# Altium integrated library Microchip Interface.IntLib: 329 symbols (part 10 of 10)
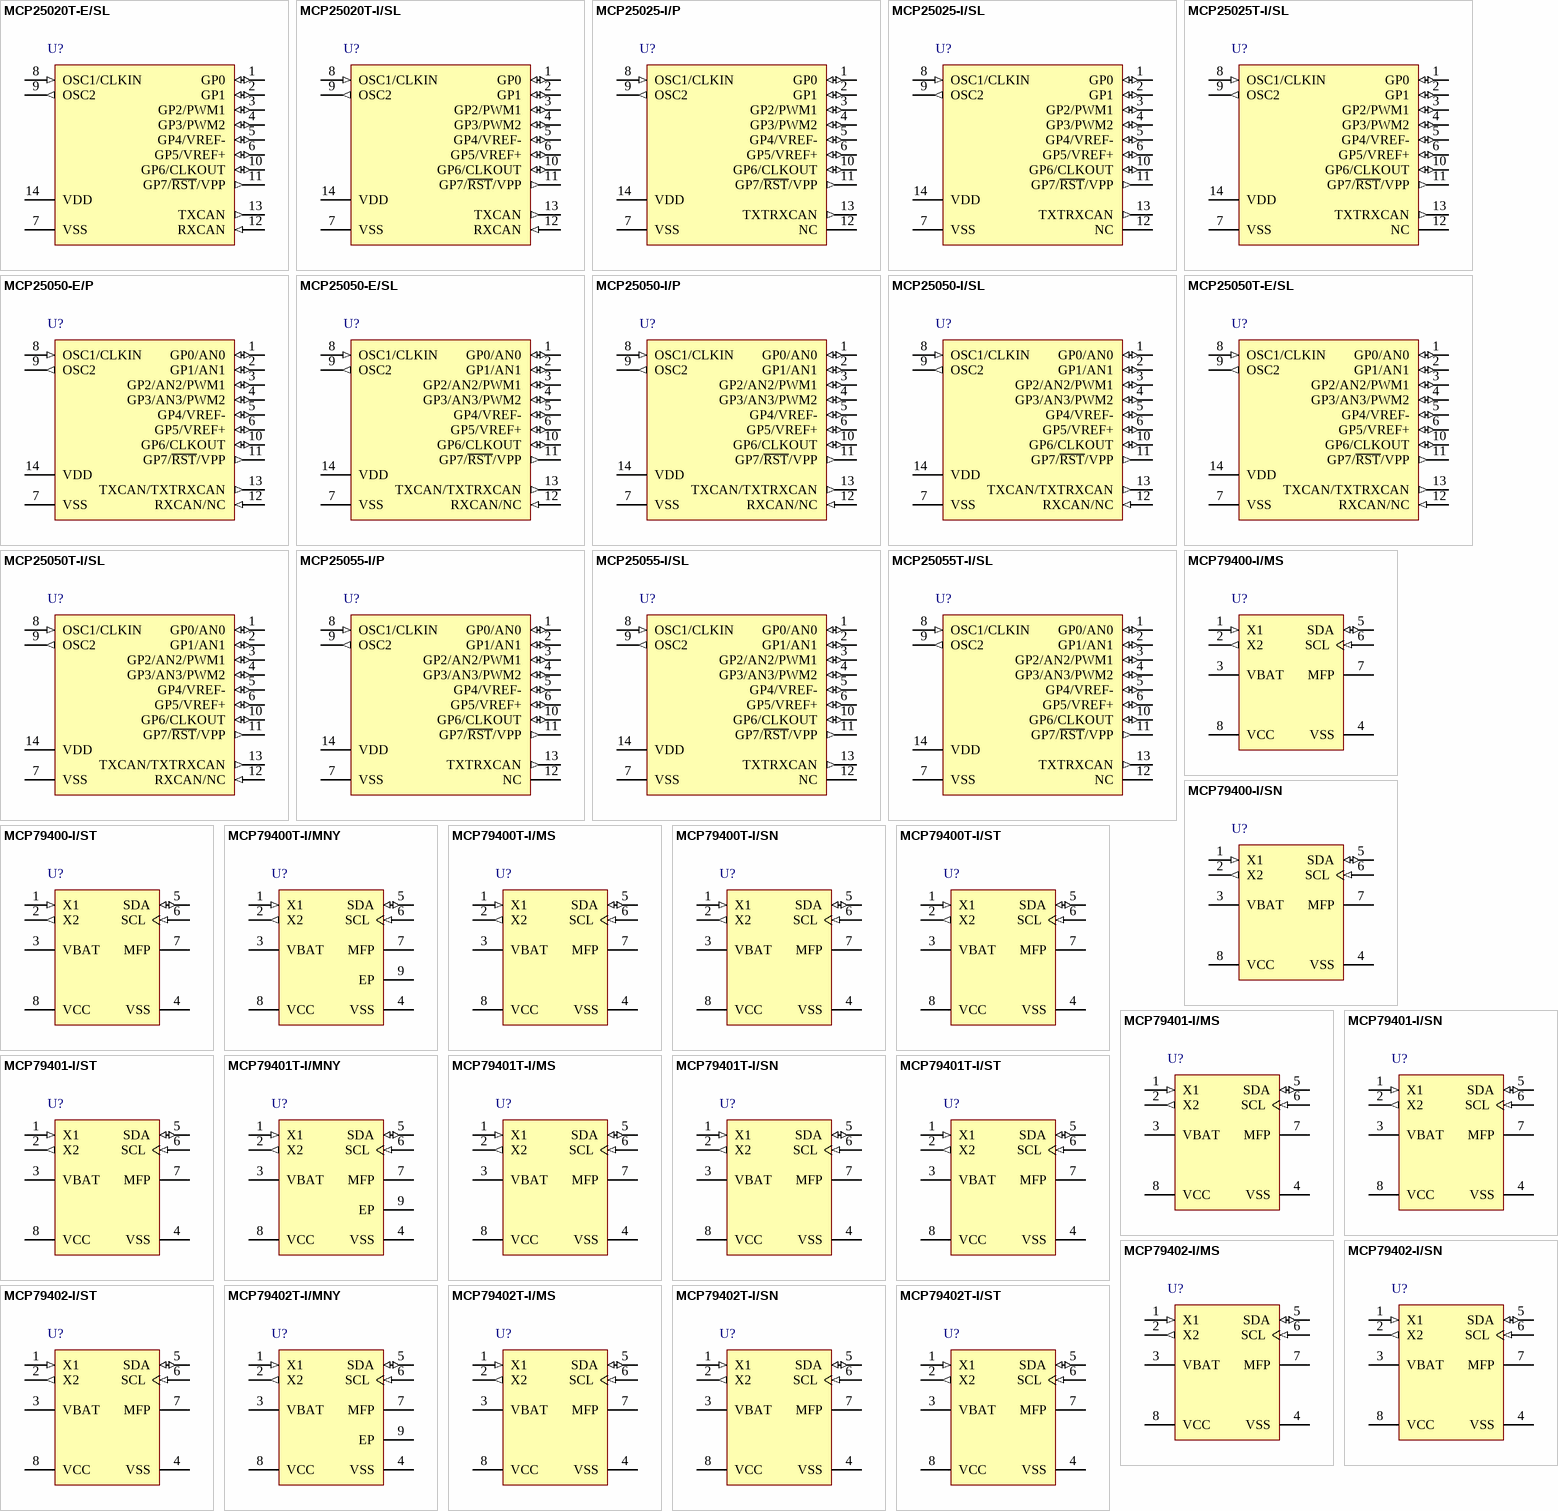
[diagram p22: symbols MCP25020T-E/SL to MCP79402T-I/ST]

## MCP79402T-I/SN
designator U?
I2C Real-Time Clock/Calendar with SRAM, Unique ID and Battery Switchover, 8-Pin SOIC, Industrial Temperature, Tape and Reel; Manufacturer: Microchip; PartNumber: MCP79402T-I/SN; DatasheetVersion: revC, Dec-2011; PackageVersion: revBB, Aug-2009; PackageReference: SOIC-SN8; PackageDescription: 8-Lead Plastic Small Outline (SN) - Narrow, 3.90mm Body [SOIC]; Supplier 1: Digi-Key; Supplier Part Number 1: MCP79402T-I/SN-ND; Supplier 2: Mouser; Supplier Part Number 2: 579-MCP79402TISN; Mounting Technology: Surface Mount; Code_JEDEC: MS-012; Code_IPC: SOIC127P600-8; ComponentLink1Description: Manufacturer URL; ComponentLink1URL: http://www.microchip.com/; ComponentLink2Description: Datasheet; ComponentLink2URL: http://ww1.microchip.com/downloads/en/DeviceDoc/25009C.pdf; ComponentLink3Description: Package Specification; ComponentLink3URL: http://www.microchip.com/stellent/groups/techpub_sg/documents/packagingspec/en012702.pdf
footprint SOIC-SN8_N (SOIC, 8-Leads, Body 4.9x3.8mm, Pitch 1.27mm, IPC Medium Density)
footprint SOIC-SN8_L (SOIC, 8-Leads, Body 4.9x3.8mm, Pitch 1.27mm, IPC High Density)
footprint SOIC-SN8_M (SOIC, 8-Leads, Body 4.9x3.8mm, Pitch 1.27mm, IPC Low Density)
pins: 1 X1 (in), 2 X2 (out), 3 VBAT (power), 4 VSS (power), 5 SDA (io), 6 SCL (in), 7 MFP (oc), 8 VCC (power)

## MCP79402T-I/ST
designator U?
I2C Real-Time Clock/Calendar with SRAM, Unique ID and Battery Switchover, 8-Pin TSSOP, Industrial Temperature, Tape and Reel; Manufacturer: Microchip; PartNumber: MCP79402T-I/ST; DatasheetVersion: revC, Dec-2011; PackageVersion: revBB, Aug-2009; PackageReference: TSSOP-ST8; PackageDescription: 8-Lead Plastic Thin Shrink Small Outline (ST) - 4.4mm Body [TSSOP]; Supplier 1: Digi-Key; Supplier Part Number 1: MCP79402T-I/ST-ND; Supplier 2: Newark; Supplier Part Number 2: 85R1772; Supplier 3: Mouser; Supplier Part Number 3: 579-MCP79402TIST; Mounting Technology: Surface Mount; Code_JEDEC: MO-153; ComponentLink1Description: Manufacturer URL; ComponentLink1URL: http://www.microchip.com/; ComponentLink2Description: Datasheet; ComponentLink2URL: http://ww1.microchip.com/downloads/en/DeviceDoc/25009C.pdf; ComponentLink3Description: Package Specification; ComponentLink3URL: http://www.microchip.com/stellent/groups/techpub_sg/documents/packagingspec/en012702.pdf
footprint TSSOP-ST8_N (TSOP, 8-Leads, Body 3x4.4mm, Pitch 0.65mm, IPC Medium Density)
footprint TSSOP-ST8_L (TSOP, 8-Leads, Body 3x4.4mm, Pitch 0.65mm, IPC High Density)
footprint TSSOP-ST8_M (TSOP, 8-Leads, Body 3x4.4mm, Pitch 0.65mm, IPC Low Density)
pins: 1 X1 (in), 2 X2 (out), 3 VBAT (power), 4 VSS (power), 5 SDA (io), 6 SCL (in), 7 MFP (oc), 8 VCC (power)

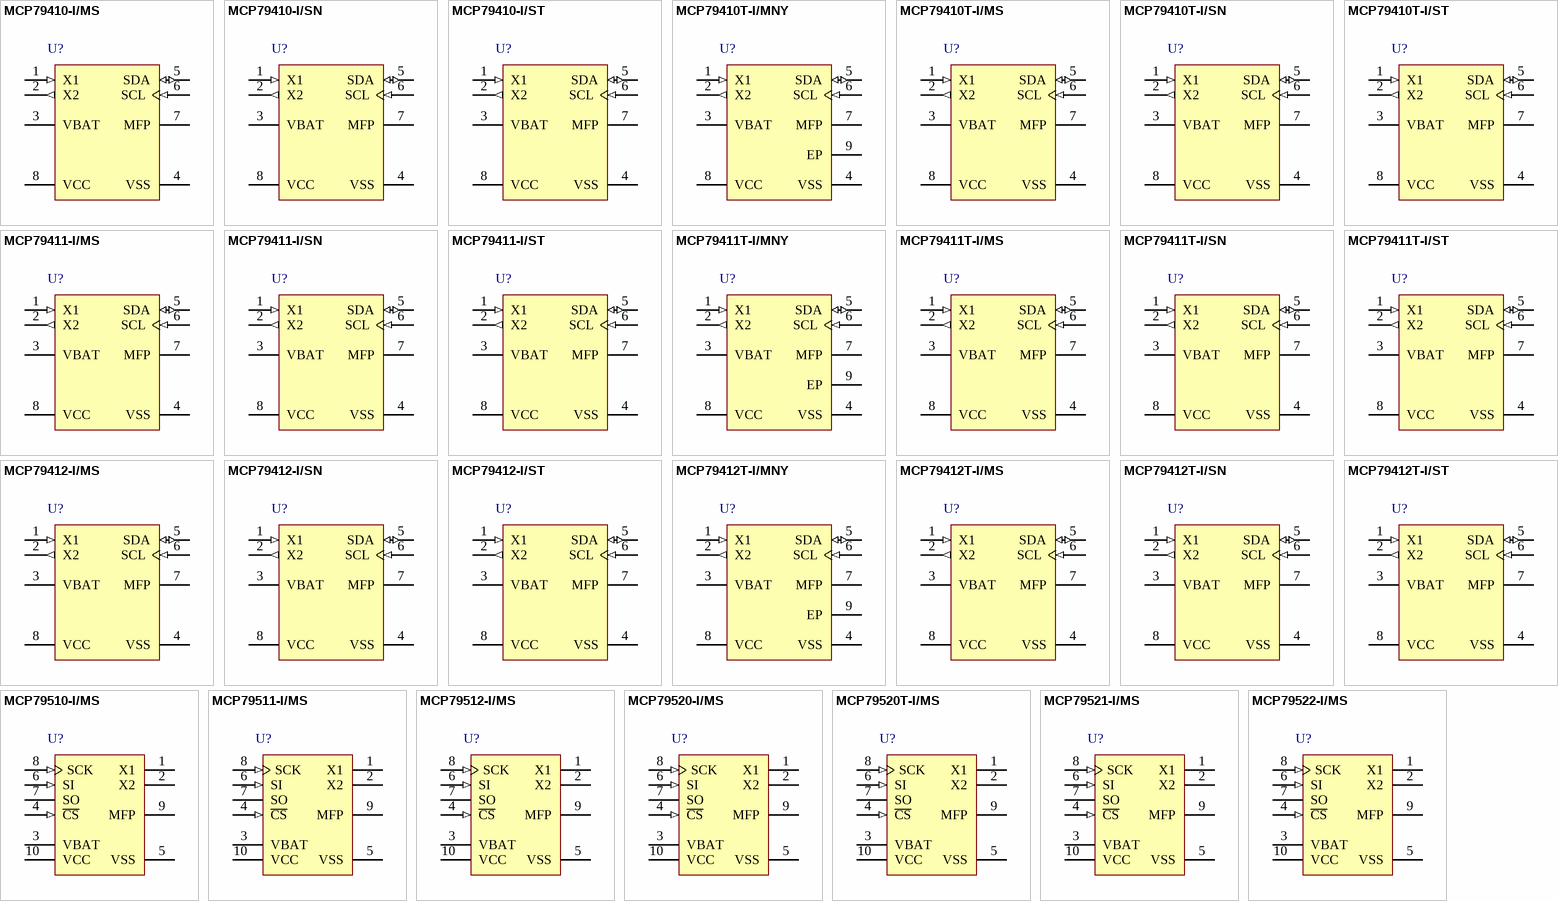
[diagram p13: symbols MCP79410-I/MS to MCP79522-I/MS]

## MCP79410-I/MS
designator U?
I2C Real-Time Clock/Calendar with EEPROM, SRAM, Unique ID and Battery Switchover, 8-Pin MSOP, Industrial Temperature; Manufacturer: Microchip; PartNumber: MCP79410-I/MS; DatasheetVersion: revD, Dec-2011; PackageVersion: revBB, Aug-2009; PackageReference: MSOP-MS8; PackageDescription: 8-Lead Plastic Micro Small Outline Package (MS) [MSOP]; Supplier 1: Digi-Key; Supplier Part Number 1: MCP79410-I/MS-ND; Supplier 2: Farnell; Supplier Part Number 2: 1823153; Supplier 3: Newark; Supplier Part Number 3: 76R6658; Supplier 4: Mouser; Supplier Part Number 4: 579-MCP79410-I/MS; Mounting Technology: Surface Mount; ComponentLink1Description: Manufacturer URL; ComponentLink1URL: http://www.microchip.com/; ComponentLink2Description: Datasheet; ComponentLink2URL: http://ww1.microchip.com/downloads/en/DeviceDoc/22266D.pdf; ComponentLink3Description: Package Specification; ComponentLink3URL: http://www.microchip.com/stellent/groups/techpub_sg/documents/packagingspec/en012702.pdf
footprint MSOP-MS8_N (TSOP, 8-Leads, Body 3x3mm, Pitch 0.65mm, IPC Medium Density)
footprint MSOP-MS8_L (TSOP, 8-Leads, Body 3x3mm, Pitch 0.65mm, IPC High Density)
footprint MSOP-MS8_M (TSOP, 8-Leads, Body 3x3mm, Pitch 0.65mm, IPC Low Density)
pins: 1 X1 (in), 2 X2 (out), 3 VBAT (power), 4 VSS (power), 5 SDA (io), 6 SCL (in), 7 MFP (oc), 8 VCC (power)

## MCP79410-I/SN
designator U?
I2C Real-Time Clock/Calendar with EEPROM, SRAM, Unique ID and Battery Switchover, 8-Pin SOIC, Industrial Temperature; Manufacturer: Microchip; PartNumber: MCP79410-I/SN; DatasheetVersion: revD, Dec-2011; PackageVersion: revBB, Aug-2009; PackageReference: SOIC-SN8; PackageDescription: 8-Lead Plastic Small Outline (SN) - Narrow, 3.90mm Body [SOIC]; Supplier 1: Digi-Key; Supplier Part Number 1: MCP79410-I/SN-ND; Supplier 2: Farnell; Supplier Part Number 2: 1823155; Supplier 3: Newark; Supplier Part Number 3: 76R6660; Supplier 4: Mouser; Supplier Part Number 4: 579-MCP79410-I/SN; Mounting Technology: Surface Mount; Code_JEDEC: MS-012; Code_IPC: SOIC127P600-8; ComponentLink1Description: Manufacturer URL; ComponentLink1URL: http://www.microchip.com/; ComponentLink2Description: Datasheet; ComponentLink2URL: http://ww1.microchip.com/downloads/en/DeviceDoc/22266D.pdf; ComponentLink3Description: Package Specification; ComponentLink3URL: http://www.microchip.com/stellent/groups/techpub_sg/documents/packagingspec/en012702.pdf
footprint SOIC-SN8_N (SOIC, 8-Leads, Body 4.9x3.8mm, Pitch 1.27mm, IPC Medium Density)
footprint SOIC-SN8_L (SOIC, 8-Leads, Body 4.9x3.8mm, Pitch 1.27mm, IPC High Density)
footprint SOIC-SN8_M (SOIC, 8-Leads, Body 4.9x3.8mm, Pitch 1.27mm, IPC Low Density)
pins: 1 X1 (in), 2 X2 (out), 3 VBAT (power), 4 VSS (power), 5 SDA (io), 6 SCL (in), 7 MFP (oc), 8 VCC (power)

## MCP79410-I/ST
designator U?
I2C Real-Time Clock/Calendar with EEPROM, SRAM, Unique ID and Battery Switchover, 8-Pin TSSOP, Industrial Temperature; Manufacturer: Microchip; PartNumber: MCP79410-I/ST; DatasheetVersion: revD, Dec-2011; PackageVersion: revBB, Aug-2009; PackageReference: TSSOP-ST8; PackageDescription: 8-Lead Plastic Thin Shrink Small Outline (ST) - 4.4mm Body [TSSOP]; Supplier 1: Digi-Key; Supplier Part Number 1: MCP79410-I/ST-ND; Supplier 2: Farnell; Supplier Part Number 2: 1823156; Supplier 3: Newark; Supplier Part Number 3: 76R6661; Supplier 4: Mouser; Supplier Part Number 4: 579-MCP79410-I/ST; Mounting Technology: Surface Mount; Code_JEDEC: MO-153; ComponentLink1Description: Manufacturer URL; ComponentLink1URL: http://www.microchip.com/; ComponentLink2Description: Datasheet; ComponentLink2URL: http://ww1.microchip.com/downloads/en/DeviceDoc/22266D.pdf; ComponentLink3Description: Package Specification; ComponentLink3URL: http://www.microchip.com/stellent/groups/techpub_sg/documents/packagingspec/en012702.pdf
footprint TSSOP-ST8_N (TSOP, 8-Leads, Body 3x4.4mm, Pitch 0.65mm, IPC Medium Density)
footprint TSSOP-ST8_L (TSOP, 8-Leads, Body 3x4.4mm, Pitch 0.65mm, IPC High Density)
footprint TSSOP-ST8_M (TSOP, 8-Leads, Body 3x4.4mm, Pitch 0.65mm, IPC Low Density)
pins: 1 X1 (in), 2 X2 (out), 3 VBAT (power), 4 VSS (power), 5 SDA (io), 6 SCL (in), 7 MFP (oc), 8 VCC (power)

## MCP79410T-I/MNY
designator U?
I2C Real-Time Clock/Calendar with EEPROM, SRAM, Unique ID and Battery Switchover, 8-Pin TDFN, Industrial Temperature, Tape and Reel; Manufacturer: Microchip; PartNumber: MCP79410T-I/MNY; DatasheetVersion: revD, Dec-2011; PackageVersion: revBB, Aug-2009; PackageReference: TDFN-MN8; PackageDescription: 8-Lead Plastic Dual Flat, No Lead Package (MN) - 2x3x0.75mm Body [TDFN]; Supplier 1: Digi-Key; Supplier Part Number 1: MCP79410T-I/MNYTR-ND; Supplier 2: Digi-Key; Supplier Part Number 2: MCP79410T-I/MNYCT-ND; Supplier 3: Digi-Key; Supplier Part Number 3: MCP79410T-I/MNYDKR-ND; Supplier 4: Newark; Supplier Part Number 4: 76R6662; Supplier 5: Mouser; Supplier Part Number 5: 579-MCP79410T-I/MNY; Mounting Technology: Surface Mount; ComponentLink1Description: Manufacturer URL; ComponentLink1URL: http://www.microchip.com/; ComponentLink2Description: Datasheet; ComponentLink2URL: http://ww1.microchip.com/downloads/en/DeviceDoc/22266D.pdf; ComponentLink3Description: Package Specification; ComponentLink3URL: http://www.microchip.com/stellent/groups/techpub_sg/documents/packagingspec/en012702.pdf
footprint TDFN-MN8 (SON, 8-Leads, Body 2x3mm, Pitch 0.5mm, Microchip Recommended)
pins: 1 X1 (in), 2 X2 (out), 3 VBAT (power), 4 VSS (power), 5 SDA (io), 6 SCL (in), 7 MFP (oc), 8 VCC (power), 9 EP

## MCP79410T-I/MS
designator U?
I2C Real-Time Clock/Calendar with EEPROM, SRAM, Unique ID and Battery Switchover, 8-Pin MSOP, Industrial Temperature, Tape and Reel; Manufacturer: Microchip; PartNumber: MCP79410T-I/MS; DatasheetVersion: revD, Dec-2011; PackageVersion: revBB, Aug-2009; PackageReference: MSOP-MS8; PackageDescription: 8-Lead Plastic Micro Small Outline Package (MS) [MSOP]; Supplier 1: Digi-Key; Supplier Part Number 1: MCP79410T-I/MS-ND; Supplier 2: Newark; Supplier Part Number 2: 76R6663; Supplier 3: Mouser; Supplier Part Number 3: 579-MCP79410T-I/MS; Mounting Technology: Surface Mount; ComponentLink1Description: Manufacturer URL; ComponentLink1URL: http://www.microchip.com/; ComponentLink2Description: Datasheet; ComponentLink2URL: http://ww1.microchip.com/downloads/en/DeviceDoc/22266D.pdf; ComponentLink3Description: Package Specification; ComponentLink3URL: http://www.microchip.com/stellent/groups/techpub_sg/documents/packagingspec/en012702.pdf
footprint MSOP-MS8_N (TSOP, 8-Leads, Body 3x3mm, Pitch 0.65mm, IPC Medium Density)
footprint MSOP-MS8_L (TSOP, 8-Leads, Body 3x3mm, Pitch 0.65mm, IPC High Density)
footprint MSOP-MS8_M (TSOP, 8-Leads, Body 3x3mm, Pitch 0.65mm, IPC Low Density)
pins: 1 X1 (in), 2 X2 (out), 3 VBAT (power), 4 VSS (power), 5 SDA (io), 6 SCL (in), 7 MFP (oc), 8 VCC (power)

## MCP79410T-I/SN
designator U?
I2C Real-Time Clock/Calendar with EEPROM, SRAM, Unique ID and Battery Switchover, 8-Pin SOIC, Industrial Temperature, Tape and Reel; Manufacturer: Microchip; PartNumber: MCP79410T-I/SN; DatasheetVersion: revD, Dec-2011; PackageVersion: revBB, Aug-2009; PackageReference: SOIC-SN8; PackageDescription: 8-Lead Plastic Small Outline (SN) - Narrow, 3.90mm Body [SOIC]; Supplier 1: Digi-Key; Supplier Part Number 1: MCP79410T-I/SN-ND; Supplier 2: Newark; Supplier Part Number 2: 76R6664; Supplier 3: Mouser; Supplier Part Number 3: 579-MCP79410T-I/SN; Mounting Technology: Surface Mount; Code_JEDEC: MS-012; Code_IPC: SOIC127P600-8; ComponentLink1Description: Manufacturer URL; ComponentLink1URL: http://www.microchip.com/; ComponentLink2Description: Datasheet; ComponentLink2URL: http://ww1.microchip.com/downloads/en/DeviceDoc/22266D.pdf; ComponentLink3Description: Package Specification; ComponentLink3URL: http://www.microchip.com/stellent/groups/techpub_sg/documents/packagingspec/en012702.pdf
footprint SOIC-SN8_N (SOIC, 8-Leads, Body 4.9x3.8mm, Pitch 1.27mm, IPC Medium Density)
footprint SOIC-SN8_L (SOIC, 8-Leads, Body 4.9x3.8mm, Pitch 1.27mm, IPC High Density)
footprint SOIC-SN8_M (SOIC, 8-Leads, Body 4.9x3.8mm, Pitch 1.27mm, IPC Low Density)
pins: 1 X1 (in), 2 X2 (out), 3 VBAT (power), 4 VSS (power), 5 SDA (io), 6 SCL (in), 7 MFP (oc), 8 VCC (power)

## MCP79410T-I/ST
designator U?
I2C Real-Time Clock/Calendar with EEPROM, SRAM, Unique ID and Battery Switchover, 8-Pin TSSOP, Industrial Temperature, Tape and Reel; Manufacturer: Microchip; PartNumber: MCP79410T-I/ST; DatasheetVersion: revD, Dec-2011; PackageVersion: revBB, Aug-2009; PackageReference: TSSOP-ST8; PackageDescription: 8-Lead Plastic Thin Shrink Small Outline (ST) - 4.4mm Body [TSSOP]; Supplier 1: Digi-Key; Supplier Part Number 1: MCP79410T-I/ST-ND; Supplier 2: Newark; Supplier Part Number 2: 76R6665; Supplier 3: Mouser; Supplier Part Number 3: 579-MCP79410T-I/ST; Mounting Technology: Surface Mount; Code_JEDEC: MO-153; ComponentLink1Description: Manufacturer URL; ComponentLink1URL: http://www.microchip.com/; ComponentLink2Description: Datasheet; ComponentLink2URL: http://ww1.microchip.com/downloads/en/DeviceDoc/22266D.pdf; ComponentLink3Description: Package Specification; ComponentLink3URL: http://www.microchip.com/stellent/groups/techpub_sg/documents/packagingspec/en012702.pdf
footprint TSSOP-ST8_N (TSOP, 8-Leads, Body 3x4.4mm, Pitch 0.65mm, IPC Medium Density)
footprint TSSOP-ST8_L (TSOP, 8-Leads, Body 3x4.4mm, Pitch 0.65mm, IPC High Density)
footprint TSSOP-ST8_M (TSOP, 8-Leads, Body 3x4.4mm, Pitch 0.65mm, IPC Low Density)
pins: 1 X1 (in), 2 X2 (out), 3 VBAT (power), 4 VSS (power), 5 SDA (io), 6 SCL (in), 7 MFP (oc), 8 VCC (power)

## MCP79411-I/MS
designator U?
I2C Real-Time Clock/Calendar with EEPROM, SRAM, Unique ID and Battery Switchover, 8-Pin MSOP, Industrial Temperature; Manufacturer: Microchip; PartNumber: MCP79411-I/MS; DatasheetVersion: revD, Dec-2011; PackageVersion: revBB, Aug-2009; PackageReference: MSOP-MS8; PackageDescription: 8-Lead Plastic Micro Small Outline Package (MS) [MSOP]; Supplier 1: Digi-Key; Supplier Part Number 1: MCP79411-I/MS-ND; Supplier 2: Newark; Supplier Part Number 2: 85R1773; Supplier 3: Mouser; Supplier Part Number 3: 579-MCP79411IMS; Mounting Technology: Surface Mount; ComponentLink1Description: Manufacturer URL; ComponentLink1URL: http://www.microchip.com/; ComponentLink2Description: Datasheet; ComponentLink2URL: http://ww1.microchip.com/downloads/en/DeviceDoc/22266D.pdf; ComponentLink3Description: Package Specification; ComponentLink3URL: http://www.microchip.com/stellent/groups/techpub_sg/documents/packagingspec/en012702.pdf
footprint MSOP-MS8_N (TSOP, 8-Leads, Body 3x3mm, Pitch 0.65mm, IPC Medium Density)
footprint MSOP-MS8_L (TSOP, 8-Leads, Body 3x3mm, Pitch 0.65mm, IPC High Density)
footprint MSOP-MS8_M (TSOP, 8-Leads, Body 3x3mm, Pitch 0.65mm, IPC Low Density)
pins: 1 X1 (in), 2 X2 (out), 3 VBAT (power), 4 VSS (power), 5 SDA (io), 6 SCL (in), 7 MFP (oc), 8 VCC (power)

## MCP79411-I/SN
designator U?
I2C Real-Time Clock/Calendar with EEPROM, SRAM, Unique ID and Battery Switchover, 8-Pin SOIC, Industrial Temperature; Manufacturer: Microchip; PartNumber: MCP79411-I/SN; DatasheetVersion: revD, Dec-2011; PackageVersion: revBB, Aug-2009; PackageReference: SOIC-SN8; PackageDescription: 8-Lead Plastic Small Outline (SN) - Narrow, 3.90mm Body [SOIC]; Supplier 1: Digi-Key; Supplier Part Number 1: MCP79411-I/SN-ND; Supplier 2: Newark; Supplier Part Number 2: 85R1774; Supplier 3: Mouser; Supplier Part Number 3: 579-MCP79411ISN; Mounting Technology: Surface Mount; Code_JEDEC: MS-012; Code_IPC: SOIC127P600-8; ComponentLink1Description: Manufacturer URL; ComponentLink1URL: http://www.microchip.com/; ComponentLink2Description: Datasheet; ComponentLink2URL: http://ww1.microchip.com/downloads/en/DeviceDoc/22266D.pdf; ComponentLink3Description: Package Specification; ComponentLink3URL: http://www.microchip.com/stellent/groups/techpub_sg/documents/packagingspec/en012702.pdf
footprint SOIC-SN8_N (SOIC, 8-Leads, Body 4.9x3.8mm, Pitch 1.27mm, IPC Medium Density)
footprint SOIC-SN8_L (SOIC, 8-Leads, Body 4.9x3.8mm, Pitch 1.27mm, IPC High Density)
footprint SOIC-SN8_M (SOIC, 8-Leads, Body 4.9x3.8mm, Pitch 1.27mm, IPC Low Density)
pins: 1 X1 (in), 2 X2 (out), 3 VBAT (power), 4 VSS (power), 5 SDA (io), 6 SCL (in), 7 MFP (oc), 8 VCC (power)

## MCP79411-I/ST
designator U?
I2C Real-Time Clock/Calendar with EEPROM, SRAM, Unique ID and Battery Switchover, 8-Pin TSSOP, Industrial Temperature; Manufacturer: Microchip; PartNumber: MCP79411-I/ST; DatasheetVersion: revD, Dec-2011; PackageVersion: revBB, Aug-2009; PackageReference: TSSOP-ST8; PackageDescription: 8-Lead Plastic Thin Shrink Small Outline (ST) - 4.4mm Body [TSSOP]; Supplier 1: Digi-Key; Supplier Part Number 1: MCP79411-I/ST-ND; Supplier 2: Mouser; Supplier Part Number 2: 579-MCP79411IST; Mounting Technology: Surface Mount; Code_JEDEC: MO-153; ComponentLink1Description: Manufacturer URL; ComponentLink1URL: http://www.microchip.com/; ComponentLink2Description: Datasheet; ComponentLink2URL: http://ww1.microchip.com/downloads/en/DeviceDoc/22266D.pdf; ComponentLink3Description: Package Specification; ComponentLink3URL: http://www.microchip.com/stellent/groups/techpub_sg/documents/packagingspec/en012702.pdf
footprint TSSOP-ST8_N (TSOP, 8-Leads, Body 3x4.4mm, Pitch 0.65mm, IPC Medium Density)
footprint TSSOP-ST8_L (TSOP, 8-Leads, Body 3x4.4mm, Pitch 0.65mm, IPC High Density)
footprint TSSOP-ST8_M (TSOP, 8-Leads, Body 3x4.4mm, Pitch 0.65mm, IPC Low Density)
pins: 1 X1 (in), 2 X2 (out), 3 VBAT (power), 4 VSS (power), 5 SDA (io), 6 SCL (in), 7 MFP (oc), 8 VCC (power)

## MCP79411T-I/MNY
designator U?
I2C Real-Time Clock/Calendar with EEPROM, SRAM, Unique ID and Battery Switchover, 8-Pin TDFN, Industrial Temperature, Tape and Reel; Manufacturer: Microchip; PartNumber: MCP79411T-I/MNY; DatasheetVersion: revD, Dec-2011; PackageVersion: revBB, Aug-2009; PackageReference: TDFN-MN8; PackageDescription: 8-Lead Plastic Dual Flat, No Lead Package (MN) - 2x3x0.75mm Body [TDFN]; Supplier 1: Digi-Key; Supplier Part Number 1: MCP79411T-I/MNY-ND; Supplier 2: Mouser; Supplier Part Number 2: 579-MCP79411TIMNY; Mounting Technology: Surface Mount; ComponentLink1Description: Manufacturer URL; ComponentLink1URL: http://www.microchip.com/; ComponentLink2Description: Datasheet; ComponentLink2URL: http://ww1.microchip.com/downloads/en/DeviceDoc/22266D.pdf; ComponentLink3Description: Package Specification; ComponentLink3URL: http://www.microchip.com/stellent/groups/techpub_sg/documents/packagingspec/en012702.pdf
footprint TDFN-MN8 (SON, 8-Leads, Body 2x3mm, Pitch 0.5mm, Microchip Recommended)
pins: 1 X1 (in), 2 X2 (out), 3 VBAT (power), 4 VSS (power), 5 SDA (io), 6 SCL (in), 7 MFP (oc), 8 VCC (power), 9 EP

## MCP79411T-I/MS
designator U?
I2C Real-Time Clock/Calendar with EEPROM, SRAM, Unique ID and Battery Switchover, 8-Pin MSOP, Industrial Temperature, Tape and Reel; Manufacturer: Microchip; PartNumber: MCP79411T-I/MS; DatasheetVersion: revD, Dec-2011; PackageVersion: revBB, Aug-2009; PackageReference: MSOP-MS8; PackageDescription: 8-Lead Plastic Micro Small Outline Package (MS) [MSOP]; Supplier 1: Digi-Key; Supplier Part Number 1: MCP79411T-I/MS-ND; Supplier 2: Newark; Supplier Part Number 2: 85R1777; Supplier 3: Mouser; Supplier Part Number 3: 579-MCP79411TIMS; Mounting Technology: Surface Mount; ComponentLink1Description: Manufacturer URL; ComponentLink1URL: http://www.microchip.com/; ComponentLink2Description: Datasheet; ComponentLink2URL: http://ww1.microchip.com/downloads/en/DeviceDoc/22266D.pdf; ComponentLink3Description: Package Specification; ComponentLink3URL: http://www.microchip.com/stellent/groups/techpub_sg/documents/packagingspec/en012702.pdf
footprint MSOP-MS8_N (TSOP, 8-Leads, Body 3x3mm, Pitch 0.65mm, IPC Medium Density)
footprint MSOP-MS8_L (TSOP, 8-Leads, Body 3x3mm, Pitch 0.65mm, IPC High Density)
footprint MSOP-MS8_M (TSOP, 8-Leads, Body 3x3mm, Pitch 0.65mm, IPC Low Density)
pins: 1 X1 (in), 2 X2 (out), 3 VBAT (power), 4 VSS (power), 5 SDA (io), 6 SCL (in), 7 MFP (oc), 8 VCC (power)

## MCP79411T-I/SN
designator U?
I2C Real-Time Clock/Calendar with EEPROM, SRAM, Unique ID and Battery Switchover, 8-Pin SOIC, Industrial Temperature, Tape and Reel; Manufacturer: Microchip; PartNumber: MCP79411T-I/SN; DatasheetVersion: revD, Dec-2011; PackageVersion: revBB, Aug-2009; PackageReference: SOIC-SN8; PackageDescription: 8-Lead Plastic Small Outline (SN) - Narrow, 3.90mm Body [SOIC]; Supplier 1: Digi-Key; Supplier Part Number 1: MCP79411T-I/SN-ND; Supplier 2: Mouser; Supplier Part Number 2: 579-MCP79411TISN; Mounting Technology: Surface Mount; Code_JEDEC: MS-012; Code_IPC: SOIC127P600-8; ComponentLink1Description: Manufacturer URL; ComponentLink1URL: http://www.microchip.com/; ComponentLink2Description: Datasheet; ComponentLink2URL: http://ww1.microchip.com/downloads/en/DeviceDoc/22266D.pdf; ComponentLink3Description: Package Specification; ComponentLink3URL: http://www.microchip.com/stellent/groups/techpub_sg/documents/packagingspec/en012702.pdf
footprint SOIC-SN8_N (SOIC, 8-Leads, Body 4.9x3.8mm, Pitch 1.27mm, IPC Medium Density)
footprint SOIC-SN8_L (SOIC, 8-Leads, Body 4.9x3.8mm, Pitch 1.27mm, IPC High Density)
footprint SOIC-SN8_M (SOIC, 8-Leads, Body 4.9x3.8mm, Pitch 1.27mm, IPC Low Density)
pins: 1 X1 (in), 2 X2 (out), 3 VBAT (power), 4 VSS (power), 5 SDA (io), 6 SCL (in), 7 MFP (oc), 8 VCC (power)

## MCP79411T-I/ST
designator U?
I2C Real-Time Clock/Calendar with EEPROM, SRAM, Unique ID and Battery Switchover, 8-Pin TSSOP, Industrial Temperature, Tape and Reel; Manufacturer: Microchip; PartNumber: MCP79411T-I/ST; DatasheetVersion: revD, Dec-2011; PackageVersion: revBB, Aug-2009; PackageReference: TSSOP-ST8; PackageDescription: 8-Lead Plastic Thin Shrink Small Outline (ST) - 4.4mm Body [TSSOP]; Supplier 1: Digi-Key; Supplier Part Number 1: MCP79411T-I/ST-ND; Supplier 2: Mouser; Supplier Part Number 2: 579-MCP79411TIST; Mounting Technology: Surface Mount; Code_JEDEC: MO-153; ComponentLink1Description: Manufacturer URL; ComponentLink1URL: http://www.microchip.com/; ComponentLink2Description: Datasheet; ComponentLink2URL: http://ww1.microchip.com/downloads/en/DeviceDoc/22266D.pdf; ComponentLink3Description: Package Specification; ComponentLink3URL: http://www.microchip.com/stellent/groups/techpub_sg/documents/packagingspec/en012702.pdf
footprint TSSOP-ST8_N (TSOP, 8-Leads, Body 3x4.4mm, Pitch 0.65mm, IPC Medium Density)
footprint TSSOP-ST8_L (TSOP, 8-Leads, Body 3x4.4mm, Pitch 0.65mm, IPC High Density)
footprint TSSOP-ST8_M (TSOP, 8-Leads, Body 3x4.4mm, Pitch 0.65mm, IPC Low Density)
pins: 1 X1 (in), 2 X2 (out), 3 VBAT (power), 4 VSS (power), 5 SDA (io), 6 SCL (in), 7 MFP (oc), 8 VCC (power)

## MCP79412-I/MS
designator U?
I2C Real-Time Clock/Calendar with EEPROM, SRAM, Unique ID and Battery Switchover, 8-Pin MSOP, Industrial Temperature; Manufacturer: Microchip; PartNumber: MCP79412-I/MS; DatasheetVersion: revD, Dec-2011; PackageVersion: revBB, Aug-2009; PackageReference: MSOP-MS8; PackageDescription: 8-Lead Plastic Micro Small Outline Package (MS) [MSOP]; Supplier 1: Digi-Key; Supplier Part Number 1: MCP79412-I/MS-ND; Supplier 2: Newark; Supplier Part Number 2: 85R1780; Supplier 3: Mouser; Supplier Part Number 3: 579-MCP79412IMS; Mounting Technology: Surface Mount; ComponentLink1Description: Manufacturer URL; ComponentLink1URL: http://www.microchip.com/; ComponentLink2Description: Datasheet; ComponentLink2URL: http://ww1.microchip.com/downloads/en/DeviceDoc/22266D.pdf; ComponentLink3Description: Package Specification; ComponentLink3URL: http://www.microchip.com/stellent/groups/techpub_sg/documents/packagingspec/en012702.pdf
footprint MSOP-MS8_N (TSOP, 8-Leads, Body 3x3mm, Pitch 0.65mm, IPC Medium Density)
footprint MSOP-MS8_L (TSOP, 8-Leads, Body 3x3mm, Pitch 0.65mm, IPC High Density)
footprint MSOP-MS8_M (TSOP, 8-Leads, Body 3x3mm, Pitch 0.65mm, IPC Low Density)
pins: 1 X1 (in), 2 X2 (out), 3 VBAT (power), 4 VSS (power), 5 SDA (io), 6 SCL (in), 7 MFP (oc), 8 VCC (power)

## MCP79412-I/SN
designator U?
I2C Real-Time Clock/Calendar with EEPROM, SRAM, Unique ID and Battery Switchover, 8-Pin SOIC, Industrial Temperature; Manufacturer: Microchip; PartNumber: MCP79412-I/SN; DatasheetVersion: revD, Dec-2011; PackageVersion: revBB, Aug-2009; PackageReference: SOIC-SN8; PackageDescription: 8-Lead Plastic Small Outline (SN) - Narrow, 3.90mm Body [SOIC]; Supplier 1: Digi-Key; Supplier Part Number 1: MCP79412-I/SN-ND; Supplier 2: Farnell; Supplier Part Number 2: 2103565; Supplier 3: Newark; Supplier Part Number 3: 94T5863; Supplier 4: Newark; Supplier Part Number 4: 85R1781; Supplier 5: Mouser; Supplier Part Number 5: 579-MCP79412ISN; Mounting Technology: Surface Mount; Code_JEDEC: MS-012; Code_IPC: SOIC127P600-8; ComponentLink1Description: Manufacturer URL; ComponentLink1URL: http://www.microchip.com/; ComponentLink2Description: Datasheet; ComponentLink2URL: http://ww1.microchip.com/downloads/en/DeviceDoc/22266D.pdf; ComponentLink3Description: Package Specification; ComponentLink3URL: http://www.microchip.com/stellent/groups/techpub_sg/documents/packagingspec/en012702.pdf
footprint SOIC-SN8_N (SOIC, 8-Leads, Body 4.9x3.8mm, Pitch 1.27mm, IPC Medium Density)
footprint SOIC-SN8_L (SOIC, 8-Leads, Body 4.9x3.8mm, Pitch 1.27mm, IPC High Density)
footprint SOIC-SN8_M (SOIC, 8-Leads, Body 4.9x3.8mm, Pitch 1.27mm, IPC Low Density)
pins: 1 X1 (in), 2 X2 (out), 3 VBAT (power), 4 VSS (power), 5 SDA (io), 6 SCL (in), 7 MFP (oc), 8 VCC (power)

## MCP79412-I/ST
designator U?
I2C Real-Time Clock/Calendar with EEPROM, SRAM, Unique ID and Battery Switchover, 8-Pin TSSOP, Industrial Temperature; Manufacturer: Microchip; PartNumber: MCP79412-I/ST; DatasheetVersion: revD, Dec-2011; PackageVersion: revBB, Aug-2009; PackageReference: TSSOP-ST8; PackageDescription: 8-Lead Plastic Thin Shrink Small Outline (ST) - 4.4mm Body [TSSOP]; Supplier 1: Digi-Key; Supplier Part Number 1: MCP79412-I/ST-ND; Supplier 2: Newark; Supplier Part Number 2: 85R1782; Supplier 3: Mouser; Supplier Part Number 3: 579-MCP79412IST; Mounting Technology: Surface Mount; Code_JEDEC: MO-153; ComponentLink1Description: Manufacturer URL; ComponentLink1URL: http://www.microchip.com/; ComponentLink2Description: Datasheet; ComponentLink2URL: http://ww1.microchip.com/downloads/en/DeviceDoc/22266D.pdf; ComponentLink3Description: Package Specification; ComponentLink3URL: http://www.microchip.com/stellent/groups/techpub_sg/documents/packagingspec/en012702.pdf
footprint TSSOP-ST8_N (TSOP, 8-Leads, Body 3x4.4mm, Pitch 0.65mm, IPC Medium Density)
footprint TSSOP-ST8_L (TSOP, 8-Leads, Body 3x4.4mm, Pitch 0.65mm, IPC High Density)
footprint TSSOP-ST8_M (TSOP, 8-Leads, Body 3x4.4mm, Pitch 0.65mm, IPC Low Density)
pins: 1 X1 (in), 2 X2 (out), 3 VBAT (power), 4 VSS (power), 5 SDA (io), 6 SCL (in), 7 MFP (oc), 8 VCC (power)

## MCP79412T-I/MNY
designator U?
I2C Real-Time Clock/Calendar with EEPROM, SRAM, Unique ID and Battery Switchover, 8-Pin TDFN, Industrial Temperature, Tape and Reel; Manufacturer: Microchip; PartNumber: MCP79412T-I/MNY; DatasheetVersion: revD, Dec-2011; PackageVersion: revBB, Aug-2009; PackageReference: TDFN-MN8; PackageDescription: 8-Lead Plastic Dual Flat, No Lead Package (MN) - 2x3x0.75mm Body [TDFN]; Supplier 1: Digi-Key; Supplier Part Number 1: MCP79412T-I/MNY-ND; Supplier 2: Newark; Supplier Part Number 2: 85R1783; Supplier 3: Mouser; Supplier Part Number 3: 579-MCP79412TIMNY; Mounting Technology: Surface Mount; ComponentLink1Description: Manufacturer URL; ComponentLink1URL: http://www.microchip.com/; ComponentLink2Description: Datasheet; ComponentLink2URL: http://ww1.microchip.com/downloads/en/DeviceDoc/22266D.pdf; ComponentLink3Description: Package Specification; ComponentLink3URL: http://www.microchip.com/stellent/groups/techpub_sg/documents/packagingspec/en012702.pdf
footprint TDFN-MN8 (SON, 8-Leads, Body 2x3mm, Pitch 0.5mm, Microchip Recommended)
pins: 1 X1 (in), 2 X2 (out), 3 VBAT (power), 4 VSS (power), 5 SDA (io), 6 SCL (in), 7 MFP (oc), 8 VCC (power), 9 EP

## MCP79412T-I/MS
designator U?
I2C Real-Time Clock/Calendar with EEPROM, SRAM, Unique ID and Battery Switchover, 8-Pin MSOP, Industrial Temperature, Tape and Reel; Manufacturer: Microchip; PartNumber: MCP79412T-I/MS; DatasheetVersion: revD, Dec-2011; PackageVersion: revBB, Aug-2009; PackageReference: MSOP-MS8; PackageDescription: 8-Lead Plastic Micro Small Outline Package (MS) [MSOP]; Supplier 1: Digi-Key; Supplier Part Number 1: MCP79412T-I/MS-ND; Supplier 2: Newark; Supplier Part Number 2: 85R1784; Supplier 3: Mouser; Supplier Part Number 3: 579-MCP79412TIMS; Mounting Technology: Surface Mount; ComponentLink1Description: Manufacturer URL; ComponentLink1URL: http://www.microchip.com/; ComponentLink2Description: Datasheet; ComponentLink2URL: http://ww1.microchip.com/downloads/en/DeviceDoc/22266D.pdf; ComponentLink3Description: Package Specification; ComponentLink3URL: http://www.microchip.com/stellent/groups/techpub_sg/documents/packagingspec/en012702.pdf
footprint MSOP-MS8_N (TSOP, 8-Leads, Body 3x3mm, Pitch 0.65mm, IPC Medium Density)
footprint MSOP-MS8_L (TSOP, 8-Leads, Body 3x3mm, Pitch 0.65mm, IPC High Density)
footprint MSOP-MS8_M (TSOP, 8-Leads, Body 3x3mm, Pitch 0.65mm, IPC Low Density)
pins: 1 X1 (in), 2 X2 (out), 3 VBAT (power), 4 VSS (power), 5 SDA (io), 6 SCL (in), 7 MFP (oc), 8 VCC (power)

## MCP79412T-I/SN
designator U?
I2C Real-Time Clock/Calendar with EEPROM, SRAM, Unique ID and Battery Switchover, 8-Pin SOIC, Industrial Temperature, Tape and Reel; Manufacturer: Microchip; PartNumber: MCP79412T-I/SN; DatasheetVersion: revD, Dec-2011; PackageVersion: revBB, Aug-2009; PackageReference: SOIC-SN8; PackageDescription: 8-Lead Plastic Small Outline (SN) - Narrow, 3.90mm Body [SOIC]; Supplier 1: Digi-Key; Supplier Part Number 1: MCP79412T-I/SN-ND; Supplier 2: Mouser; Supplier Part Number 2: 579-MCP79412TISN; Mounting Technology: Surface Mount; Code_JEDEC: MS-012; Code_IPC: SOIC127P600-8; ComponentLink1Description: Manufacturer URL; ComponentLink1URL: http://www.microchip.com/; ComponentLink2Description: Datasheet; ComponentLink2URL: http://ww1.microchip.com/downloads/en/DeviceDoc/22266D.pdf; ComponentLink3Description: Package Specification; ComponentLink3URL: http://www.microchip.com/stellent/groups/techpub_sg/documents/packagingspec/en012702.pdf
footprint SOIC-SN8_N (SOIC, 8-Leads, Body 4.9x3.8mm, Pitch 1.27mm, IPC Medium Density)
footprint SOIC-SN8_L (SOIC, 8-Leads, Body 4.9x3.8mm, Pitch 1.27mm, IPC High Density)
footprint SOIC-SN8_M (SOIC, 8-Leads, Body 4.9x3.8mm, Pitch 1.27mm, IPC Low Density)
pins: 1 X1 (in), 2 X2 (out), 3 VBAT (power), 4 VSS (power), 5 SDA (io), 6 SCL (in), 7 MFP (oc), 8 VCC (power)

## MCP79412T-I/ST
designator U?
I2C Real-Time Clock/Calendar with EEPROM, SRAM, Unique ID and Battery Switchover, 8-Pin TSSOP, Industrial Temperature, Tape and Reel; Manufacturer: Microchip; PartNumber: MCP79412T-I/ST; DatasheetVersion: revD, Dec-2011; PackageVersion: revBB, Aug-2009; PackageReference: TSSOP-ST8; PackageDescription: 8-Lead Plastic Thin Shrink Small Outline (ST) - 4.4mm Body [TSSOP]; Supplier 1: Digi-Key; Supplier Part Number 1: MCP79412T-I/ST-ND; Supplier 2: Mouser; Supplier Part Number 2: 579-MCP79412TIST; Mounting Technology: Surface Mount; Code_JEDEC: MO-153; ComponentLink1Description: Manufacturer URL; ComponentLink1URL: http://www.microchip.com/; ComponentLink2Description: Datasheet; ComponentLink2URL: http://ww1.microchip.com/downloads/en/DeviceDoc/22266D.pdf; ComponentLink3Description: Package Specification; ComponentLink3URL: http://www.microchip.com/stellent/groups/techpub_sg/documents/packagingspec/en012702.pdf
footprint TSSOP-ST8_N (TSOP, 8-Leads, Body 3x4.4mm, Pitch 0.65mm, IPC Medium Density)
footprint TSSOP-ST8_L (TSOP, 8-Leads, Body 3x4.4mm, Pitch 0.65mm, IPC High Density)
footprint TSSOP-ST8_M (TSOP, 8-Leads, Body 3x4.4mm, Pitch 0.65mm, IPC Low Density)
pins: 1 X1 (in), 2 X2 (out), 3 VBAT (power), 4 VSS (power), 5 SDA (io), 6 SCL (in), 7 MFP (oc), 8 VCC (power)

## MCP79510-I/MS
designator U?
3 V SPI Real-Time Clock Calendar with Battery Switchover, 10 MHz Communications Speed, 64 Bytes SRAM, -40 to 85 degC, 10-pin MSOP (MS10), Tube; Manufacturer: Microchip; PartNumber: MCP79510-I/MS; DatasheetVersion: Rev. A; PackageVersion: C04-021C; PackageReference: MSOP-MS10; PackageDescription: 10-Lead Plastic Micro Small Outline Package, 3 x 3 mm Body, 0.5 mm Pitch; Supplier 1: Digi-Key; Supplier Part Number 1: MCP79510-I/MS-ND; Supplier 2: Newark; Supplier Part Number 2: 47T5346; Supplier 3: Mouser; Supplier Part Number 3: 579-MCP79510-I/MS; Mounting Technology: Surface Mount; ComponentLink1Description: Manufacturer URL; ComponentLink1URL: http://www.microchip.com; ComponentLink2Description: Datasheet; ComponentLink2URL: http://ww1.microchip.com/downloads/en/DeviceDoc/22300A.pdf; ComponentLink3Description: Package Specification; ComponentLink3URL: http://www.microchip.com/stellent/groups/techpub_sg/documents/packagingspec/en012702.pdf; ComponentLink4Description: Product URL; ComponentLink4URL: http://www.microchip.com/MCP79510
footprint MCHP-MSOP-MS10_N (SOP, 10-Leads, Body 3x3mm, Pitch 0.5mm, IPC Medium Density)
footprint MCHP-MSOP-MS10_L (SOP, 10-Leads, Body 3x3mm, Pitch 0.5mm, IPC High Density)
footprint MCHP-MSOP-MS10_M (SOP, 10-Leads, Body 3x3mm, Pitch 0.5mm, IPC Low Density)
pins: 1 X1 "Xtal Input, External Oscillator Input", 2 X2 "Xtal Output", 3 VBAT (power) "Battery Backup Input (3V Typ)", 4 ~{CS} (in) "Chip Select", 5 VSS (power) "Ground", 6 SI (in) "Serial Input", 7 SO (hiz) "Serial Output", 8 SCK (in) "Serial Clock", 9 MFP (oc) "Multifunction Pin", 10 VCC (power) "+1.8V to +3.6V Power Supply"

## MCP79511-I/MS
designator U?
3 V SPI Real-Time Clock Calendar with Battery Switchover, 10 MHz Communications Speed, 64 Bytes SRAM, -40 to 85 degC, 10-pin MSOP (MS10), Tube; Manufacturer: Microchip; PartNumber: MCP79511-I/MS; DatasheetVersion: Rev. A; PackageVersion: C04-021C; PackageReference: MSOP-MS10; PackageDescription: 10-Lead Plastic Micro Small Outline Package, 3 x 3 mm Body, 0.5 mm Pitch; Supplier 1: Digi-Key; Supplier Part Number 1: MCP79511-I/MS-ND; Supplier 2: Newark; Supplier Part Number 2: 47T5349; Supplier 3: Mouser; Supplier Part Number 3: 579-MCP79511-I/MS; Mounting Technology: Surface Mount; ComponentLink1Description: Manufacturer URL; ComponentLink1URL: http://www.microchip.com; ComponentLink2Description: Datasheet; ComponentLink2URL: http://ww1.microchip.com/downloads/en/DeviceDoc/22300A.pdf; ComponentLink3Description: Package Specification; ComponentLink3URL: http://www.microchip.com/stellent/groups/techpub_sg/documents/packagingspec/en012702.pdf; ComponentLink4Description: Product URL; ComponentLink4URL: http://www.microchip.com/MCP79511
footprint MCHP-MSOP-MS10_N (SOP, 10-Leads, Body 3x3mm, Pitch 0.5mm, IPC Medium Density)
footprint MCHP-MSOP-MS10_L (SOP, 10-Leads, Body 3x3mm, Pitch 0.5mm, IPC High Density)
footprint MCHP-MSOP-MS10_M (SOP, 10-Leads, Body 3x3mm, Pitch 0.5mm, IPC Low Density)
pins: 1 X1 "Xtal Input, External Oscillator Input", 2 X2 "Xtal Output", 3 VBAT (power) "Battery Backup Input (3V Typ)", 4 ~{CS} (in) "Chip Select", 5 VSS (power) "Ground", 6 SI (in) "Serial Input", 7 SO (hiz) "Serial Output", 8 SCK (in) "Serial Clock", 9 MFP (oc) "Multifunction Pin", 10 VCC (power) "+1.8V to +3.6V Power Supply"

## MCP79512-I/MS
designator U?
3 V SPI Real-Time Clock Calendar with Battery Switchover, 10 MHz Communications Speed, 64 Bytes SRAM, -40 to 85 degC, 10-pin MSOP (MS10), Tube; Manufacturer: Microchip; PartNumber: MCP79512-I/MS; DatasheetVersion: Rev. A; PackageVersion: C04-021C; PackageReference: MSOP-MS10; PackageDescription: 10-Lead Plastic Micro Small Outline Package, 3 x 3 mm Body, 0.5 mm Pitch; Supplier 1: Digi-Key; Supplier Part Number 1: MCP79512-I/MS-ND; Supplier 2: Mouser; Supplier Part Number 2: 579-MCP79512-I/MS; Mounting Technology: Surface Mount; ComponentLink1Description: Manufacturer URL; ComponentLink1URL: http://www.microchip.com; ComponentLink2Description: Datasheet; ComponentLink2URL: http://ww1.microchip.com/downloads/en/DeviceDoc/22300A.pdf; ComponentLink3Description: Package Specification; ComponentLink3URL: http://www.microchip.com/stellent/groups/techpub_sg/documents/packagingspec/en012702.pdf; ComponentLink4Description: Product URL; ComponentLink4URL: http://www.microchip.com/MCP79512
footprint MCHP-MSOP-MS10_N (SOP, 10-Leads, Body 3x3mm, Pitch 0.5mm, IPC Medium Density)
footprint MCHP-MSOP-MS10_L (SOP, 10-Leads, Body 3x3mm, Pitch 0.5mm, IPC High Density)
footprint MCHP-MSOP-MS10_M (SOP, 10-Leads, Body 3x3mm, Pitch 0.5mm, IPC Low Density)
pins: 1 X1 "Xtal Input, External Oscillator Input", 2 X2 "Xtal Output", 3 VBAT (power) "Battery Backup Input (3V Typ)", 4 ~{CS} (in) "Chip Select", 5 VSS (power) "Ground", 6 SI (in) "Serial Input", 7 SO (hiz) "Serial Output", 8 SCK (in) "Serial Clock", 9 MFP (oc) "Multifunction Pin", 10 VCC (power) "+1.8V to +3.6V Power Supply"

## MCP79520-I/MS
designator U?
3 V SPI Real-Time Clock Calendar with Battery Switchover, 10 MHz Communications Speed, 64 Bytes SRAM, -40 to 85 degC, 10-pin MSOP (MS10), Tube; Manufacturer: Microchip; PartNumber: MCP79520-I/MS; DatasheetVersion: Rev. A; PackageVersion: C04-021C; PackageReference: MSOP-MS10; PackageDescription: 10-Lead Plastic Micro Small Outline Package, 3 x 3 mm Body, 0.5 mm Pitch; Supplier 1: Digi-Key; Supplier Part Number 1: MCP79520-I/MS-ND; Supplier 2: Newark; Supplier Part Number 2: 47T5355; Supplier 3: Mouser; Supplier Part Number 3: 579-MCP79520-I/MS; Mounting Technology: Surface Mount; ComponentLink1Description: Manufacturer URL; ComponentLink1URL: http://www.microchip.com; ComponentLink2Description: Datasheet; ComponentLink2URL: http://ww1.microchip.com/downloads/en/DeviceDoc/22300A.pdf; ComponentLink3Description: Package Specification; ComponentLink3URL: http://www.microchip.com/stellent/groups/techpub_sg/documents/packagingspec/en012702.pdf; ComponentLink4Description: Product URL; ComponentLink4URL: http://www.microchip.com/MCP79520
footprint MCHP-MSOP-MS10_N (SOP, 10-Leads, Body 3x3mm, Pitch 0.5mm, IPC Medium Density)
footprint MCHP-MSOP-MS10_L (SOP, 10-Leads, Body 3x3mm, Pitch 0.5mm, IPC High Density)
footprint MCHP-MSOP-MS10_M (SOP, 10-Leads, Body 3x3mm, Pitch 0.5mm, IPC Low Density)
pins: 1 X1 "Xtal Input, External Oscillator Input", 2 X2 "Xtal Output", 3 VBAT (power) "Battery Backup Input (3V Typ)", 4 ~{CS} (in) "Chip Select", 5 VSS (power) "Ground", 6 SI (in) "Serial Input", 7 SO (hiz) "Serial Output", 8 SCK (in) "Serial Clock", 9 MFP (oc) "Multifunction Pin", 10 VCC (power) "+1.8V to +3.6V Power Supply"

## MCP79520T-I/MS
designator U?
3 V SPI Real-Time Clock Calendar with Battery Switchover, 10 MHz Communications Speed, 64 Bytes SRAM, -40 to 85 degC, 10-pin MSOP (MS10), Tape and Reel; Manufacturer: Microchip; PartNumber: MCP79520T-I/MS; DatasheetVersion: Rev. A; PackageVersion: C04-021C; PackageReference: MSOP-MS10; PackageDescription: 10-Lead Plastic Micro Small Outline Package, 3 x 3 mm Body, 0.5 mm Pitch; Supplier 1: Digi-Key; Supplier Part Number 1: MCP79520T-I/MS-ND; Supplier 2: Mouser; Supplier Part Number 2: 579-MCP79520T-I/MS; Mounting Technology: Surface Mount; ComponentLink1Description: Manufacturer URL; ComponentLink1URL: http://www.microchip.com; ComponentLink2Description: Datasheet; ComponentLink2URL: http://ww1.microchip.com/downloads/en/DeviceDoc/22300A.pdf; ComponentLink3Description: Package Specification; ComponentLink3URL: http://www.microchip.com/stellent/groups/techpub_sg/documents/packagingspec/en012702.pdf; ComponentLink4Description: Product URL; ComponentLink4URL: http://www.microchip.com/MCP79520
footprint MCHP-MSOP-MS10_N (SOP, 10-Leads, Body 3x3mm, Pitch 0.5mm, IPC Medium Density)
footprint MCHP-MSOP-MS10_L (SOP, 10-Leads, Body 3x3mm, Pitch 0.5mm, IPC High Density)
footprint MCHP-MSOP-MS10_M (SOP, 10-Leads, Body 3x3mm, Pitch 0.5mm, IPC Low Density)
pins: 1 X1 "Xtal Input, External Oscillator Input", 2 X2 "Xtal Output", 3 VBAT (power) "Battery Backup Input (3V Typ)", 4 ~{CS} (in) "Chip Select", 5 VSS (power) "Ground", 6 SI (in) "Serial Input", 7 SO (hiz) "Serial Output", 8 SCK (in) "Serial Clock", 9 MFP (oc) "Multifunction Pin", 10 VCC (power) "+1.8V to +3.6V Power Supply"

## MCP79521-I/MS
designator U?
3 V SPI Real-Time Clock Calendar with Battery Switchover, 10 MHz Communications Speed, 64 Bytes SRAM, -40 to 85 degC, 10-pin MSOP (MS10), Tube; Manufacturer: Microchip; PartNumber: MCP79521-I/MS; DatasheetVersion: Rev. A; PackageVersion: C04-021C; PackageReference: MSOP-MS10; PackageDescription: 10-Lead Plastic Micro Small Outline Package, 3 x 3 mm Body, 0.5 mm Pitch; Supplier 1: Digi-Key; Supplier Part Number 1: MCP79521-I/MS-ND; Supplier 2: Mouser; Supplier Part Number 2: 579-MCP79521-I/MS; Mounting Technology: Surface Mount; ComponentLink1Description: Manufacturer URL; ComponentLink1URL: http://www.microchip.com; ComponentLink2Description: Datasheet; ComponentLink2URL: http://ww1.microchip.com/downloads/en/DeviceDoc/22300A.pdf; ComponentLink3Description: Package Specification; ComponentLink3URL: http://www.microchip.com/stellent/groups/techpub_sg/documents/packagingspec/en012702.pdf; ComponentLink4Description: Product URL; ComponentLink4URL: http://www.microchip.com/MCP79521
footprint MCHP-MSOP-MS10_N (SOP, 10-Leads, Body 3x3mm, Pitch 0.5mm, IPC Medium Density)
footprint MCHP-MSOP-MS10_L (SOP, 10-Leads, Body 3x3mm, Pitch 0.5mm, IPC High Density)
footprint MCHP-MSOP-MS10_M (SOP, 10-Leads, Body 3x3mm, Pitch 0.5mm, IPC Low Density)
pins: 1 X1 "Xtal Input, External Oscillator Input", 2 X2 "Xtal Output", 3 VBAT (power) "Battery Backup Input (3V Typ)", 4 ~{CS} (in) "Chip Select", 5 VSS (power) "Ground", 6 SI (in) "Serial Input", 7 SO (hiz) "Serial Output", 8 SCK (in) "Serial Clock", 9 MFP (oc) "Multifunction Pin", 10 VCC (power) "+1.8V to +3.6V Power Supply"

## MCP79522-I/MS
designator U?
3 V SPI Real-Time Clock Calendar with Battery Switchover, 10 MHz Communications Speed, 64 Bytes SRAM, -40 to 85 degC, 10-pin MSOP (MS10), Tube; Manufacturer: Microchip; PartNumber: MCP79522-I/MS; DatasheetVersion: Rev. A; PackageVersion: C04-021C; PackageReference: MSOP-MS10; PackageDescription: 10-Lead Plastic Micro Small Outline Package, 3 x 3 mm Body, 0.5 mm Pitch; Supplier 1: Digi-Key; Supplier Part Number 1: MCP79522-I/MS-ND; Supplier 2: Newark; Supplier Part Number 2: 47T5361; Supplier 3: Mouser; Supplier Part Number 3: 579-MCP79522-I/MS; Mounting Technology: Surface Mount; ComponentLink1Description: Manufacturer URL; ComponentLink1URL: http://www.microchip.com; ComponentLink2Description: Datasheet; ComponentLink2URL: http://ww1.microchip.com/downloads/en/DeviceDoc/22300A.pdf; ComponentLink3Description: Package Specification; ComponentLink3URL: http://www.microchip.com/stellent/groups/techpub_sg/documents/packagingspec/en012702.pdf; ComponentLink4Description: Product URL; ComponentLink4URL: http://www.microchip.com/MCP79522
footprint MCHP-MSOP-MS10_N (SOP, 10-Leads, Body 3x3mm, Pitch 0.5mm, IPC Medium Density)
footprint MCHP-MSOP-MS10_L (SOP, 10-Leads, Body 3x3mm, Pitch 0.5mm, IPC High Density)
footprint MCHP-MSOP-MS10_M (SOP, 10-Leads, Body 3x3mm, Pitch 0.5mm, IPC Low Density)
pins: 1 X1 "Xtal Input, External Oscillator Input", 2 X2 "Xtal Output", 3 VBAT (power) "Battery Backup Input (3V Typ)", 4 ~{CS} (in) "Chip Select", 5 VSS (power) "Ground", 6 SI (in) "Serial Input", 7 SO (hiz) "Serial Output", 8 SCK (in) "Serial Clock", 9 MFP (oc) "Multifunction Pin", 10 VCC (power) "+1.8V to +3.6V Power Supply"